# Altium footprint library footprints.PcbLib: 154 footprints (part 5 of 10)
Each footprint in its own frame and in the unit in brackets; x right, y up, seen from the top. Pads: shape width x height; smd on the part's side, far side on the other; paste and mask are expansions set on the pad; w line width, h text height; cw(c..) or ccw(c..) is an arc to the next point about the centre after c.
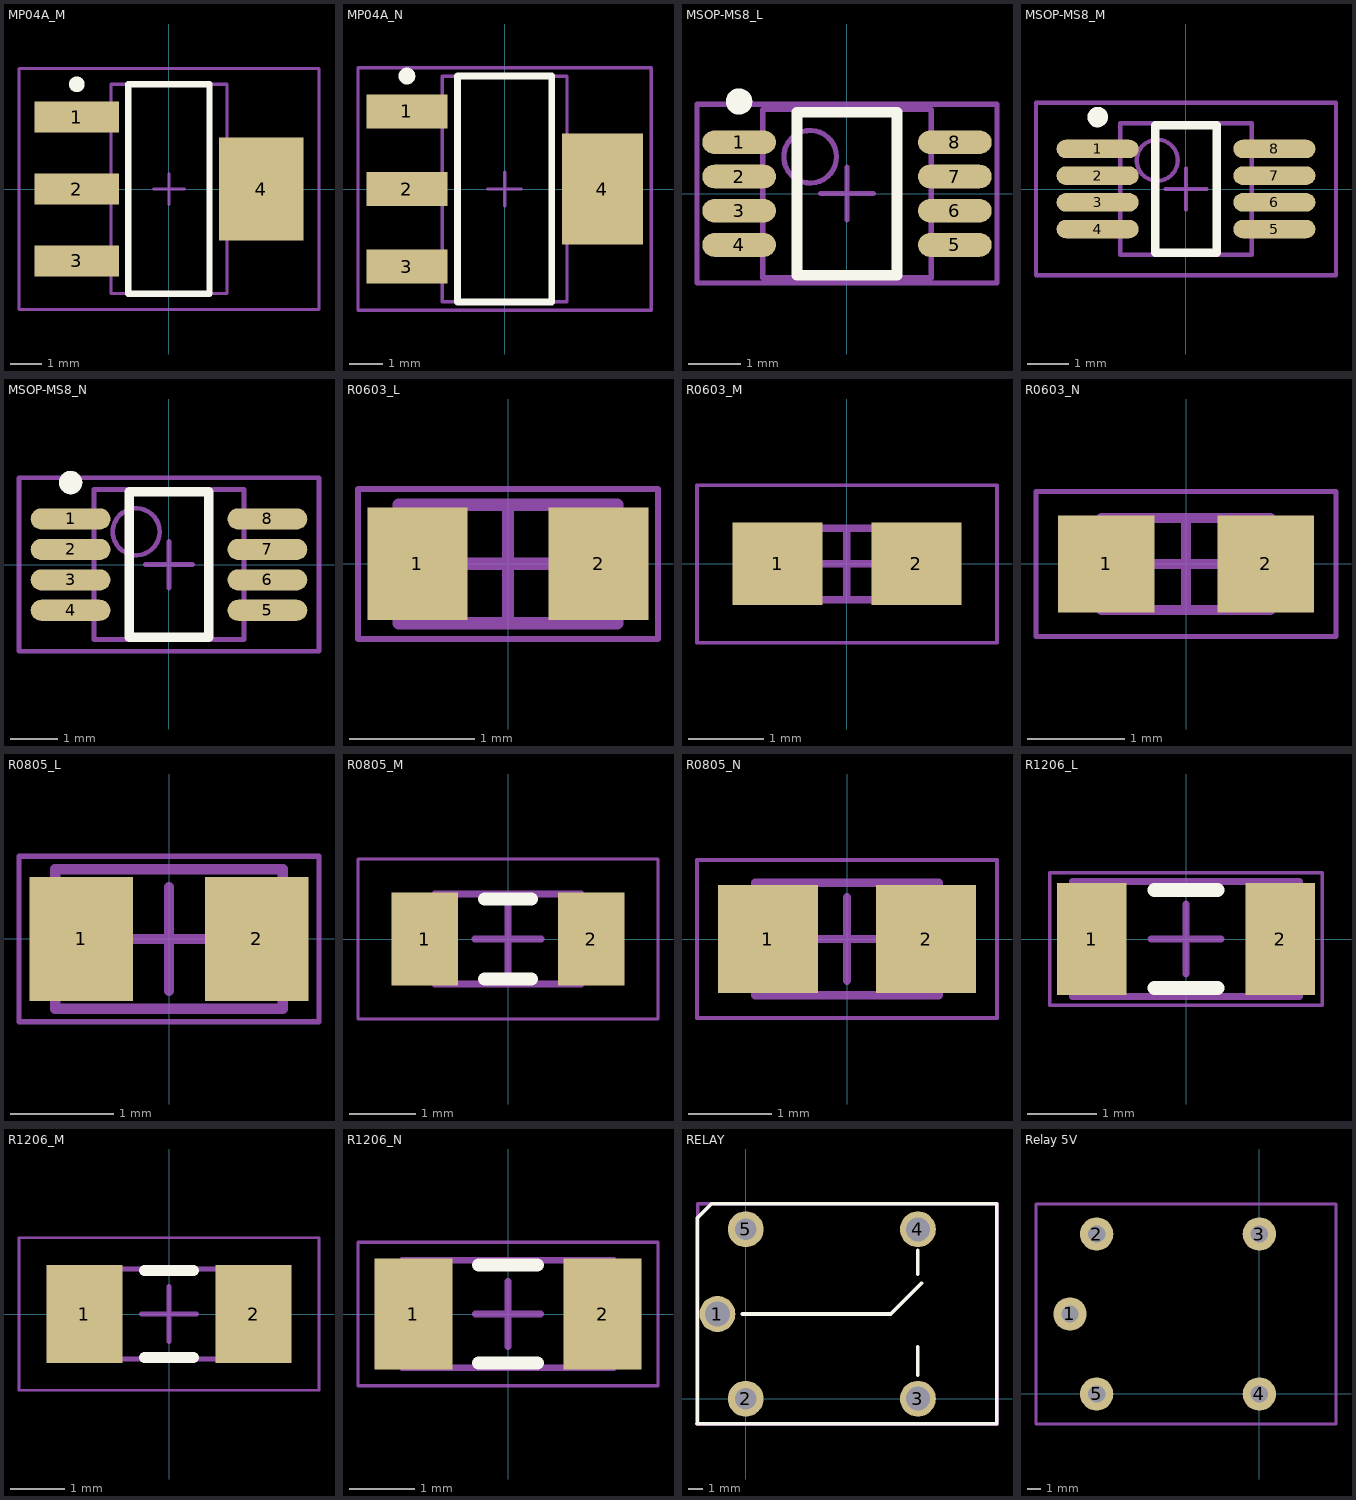
[diagram p4: the footprints below, top view; thin cyan lines are the x and y axes]

## MP04A_M [mm] "SOT223, 4-Leads, Body 6.5x3.5mm, Pitch 2.3mm, Lead Span 7mm, IPC Low Density"
height 1.8
pads (4):
  rect 2.7x1 smd: 1(-2.95,2.3) 2(-2.95,0) 3(-2.95,-2.3)
  rect 2.7x3.3 smd: 4(2.95,0)
Top Overlay:
  circle w0.25: c-2.95,3.35 r0.125
  lines w0.2: -1.3,-3.35 -1.3,3.35 1.3,3.35 1.3,-3.35 -1.3,-3.35
Mechanical 13:
  lines w0.1: -1.85,-3.35 -1.85,3.35 1.85,3.35 1.85,-3.35 -1.85,-3.35
Mechanical 15:
  lines w0.1: -0.5,0 0.5,0 ; 0,-0.5 0,0.5 ; -4.8,-3.85 -4.8,3.85 4.8,3.85 4.8,-3.85 -4.8,-3.85
3D body: height 1.8, standoff 0, extent -1.85,-3.35 1.85,3.35

## MP04A_N [mm] "SOT223, 4-Leads, Body 6.5x3.5mm, Pitch 2.3mm, Lead Span 7mm, IPC Medium Density"
height 1.8
pads (4):
  rect 2.4x1 smd: 1(-2.9,2.3) 2(-2.9,0) 3(-2.9,-2.3)
  rect 2.4x3.3 smd: 4(2.9,0)
Top Overlay:
  circle w0.25: c-2.9,3.35 r0.125
  lines w0.2: -1.4,-3.35 1.4,-3.35 1.4,3.35 -1.4,3.35 -1.4,-3.35
Mechanical 13:
  lines w0.1: -1.85,-3.35 1.85,-3.35 1.85,3.35 -1.85,3.35 -1.85,-3.35
Mechanical 15:
  lines w0.1: -0.5,0 0.5,0 ; 0,-0.5 0,0.5 ; -4.35,-3.6 4.35,-3.6 4.35,3.6 -4.35,3.6 -4.35,-3.6
3D body: height 1.8, standoff 0, extent -1.85,-3.35 1.85,3.35

## MSOP-MS8_L [mm] "TSOP, 8-Leads, Body 3x3mm, Pitch 0.65mm, IPC High Density"
height 1.1
pads (8):
  oval 1.4x0.45 smd: 1(-2.05,0.975) 2(-2.05,0.325) 3(-2.05,-0.325) 4(-2.05,-0.975) 5(2.05,-0.975) 6(2.05,-0.325) 7(2.05,0.325) 8(2.05,0.975)
Top Overlay:
  circle w0.25: c-2.05,1.75 r0.125
  lines w0.2: -0.95,-1.55 0.95,-1.55 0.95,1.55 -0.95,1.55 -0.95,-1.55
Mechanical 13:
  circle w0.1: c-0.7,0.7 r0.5
  lines w0.1: -1.6,-1.6 1.6,-1.6 1.6,1.6 -1.6,1.6 -1.6,-1.6
Mechanical 15:
  lines w0.1: -0.5,0 0.5,0 ; 0,-0.5 0,0.5 ; -2.85,-1.7 2.85,-1.7 2.85,1.7 -2.85,1.7 -2.85,-1.7
3D body: height 1.1, standoff 0, extent -1.6,-1.6 1.6,1.6

## MSOP-MS8_M [mm] "TSOP, 8-Leads, Body 3x3mm, Pitch 0.65mm, IPC Low Density"
height 1.1
pads (8):
  oval 2x0.45 smd: 1(-2.15,0.975) 2(-2.15,0.325) 3(-2.15,-0.325) 4(-2.15,-0.975) 5(2.15,-0.975) 6(2.15,-0.325) 7(2.15,0.325) 8(2.15,0.975)
Top Overlay:
  circle w0.25: c-2.15,1.75 r0.125
  lines w0.2: -0.75,-1.55 0.75,-1.55 0.75,1.55 -0.75,1.55 -0.75,-1.55
Mechanical 13:
  circle w0.1: c-0.7,0.7 r0.5
  lines w0.1: -1.6,-1.6 1.6,-1.6 1.6,1.6 -1.6,1.6 -1.6,-1.6
Mechanical 15:
  lines w0.1: -0.5,0 0.5,0 ; 0,-0.5 0,0.5 ; -3.65,-2.1 3.65,-2.1 3.65,2.1 -3.65,2.1 -3.65,-2.1
3D body: height 1.1, standoff 0, extent -1.6,-1.6 1.6,1.6

## MSOP-MS8_N [mm] "TSOP, 8-Leads, Body 3x3mm, Pitch 0.65mm, IPC Medium Density"
height 1.1
pads (8):
  oval 1.7x0.45 smd: 1(-2.1,0.975) 2(-2.1,0.325) 3(-2.1,-0.325) 4(-2.1,-0.975) 5(2.1,-0.975) 6(2.1,-0.325) 7(2.1,0.325) 8(2.1,0.975)
Top Overlay:
  circle w0.25: c-2.1,1.75 r0.125
  lines w0.2: -0.85,-1.55 -0.85,1.55 0.85,1.55 0.85,-1.55 -0.85,-1.55
Mechanical 13:
  circle w0.1: c-0.7,0.7 r0.5
  lines w0.1: -1.6,-1.6 -1.6,1.6 1.6,1.6 1.6,-1.6 -1.6,-1.6
Mechanical 15:
  lines w0.1: -0.5,0 0.5,0 ; 0,-0.5 0,0.5 ; -3.2,-1.85 -3.2,1.85 3.2,1.85 3.2,-1.85 -3.2,-1.85
3D body: height 1.1, standoff 0, extent -1.6,-1.6 1.6,1.6

## R0603_L [mm] "Chip Resistor, 2-Leads, Body 1,60x0,85mm, IPC High Density"
height 0.45
pads (2):
  rect 0.8x0.9 smd: 1(-0.725,0) 2(0.725,0)
Mechanical 13:
  lines w0.1: -0.875,-0.475 -0.875,0.475 0.875,0.475 0.875,-0.475 -0.875,-0.475
Mechanical 15:
  lines w0.05: -1.2,-0.6 -1.2,0.6 1.2,0.6 1.2,-0.6 -1.2,-0.6
  lines w0.1: -0.475,0 0.475,0 ; 0,-0.475 0,0.475
3D body: height 0.45, standoff 0, extent -0.575,-0.475 0.575,0.475
3D body: height 0.45, standoff 0, extent -0.875,-0.475 -0.575,0.475
3D body: height 0.45, standoff 0, extent 0.575,-0.475 0.875,0.475

## R0603_M [mm] "Chip Resistor, 2-Leads, Body 1,60x0,85mm, IPC Low Density"
height 0.45
pads (2):
  rect 1.2x1.1 smd: 1(-0.925,0) 2(0.925,0)
Mechanical 13:
  lines w0.1: -0.875,-0.475 0.875,-0.475 0.875,0.475 -0.875,0.475 -0.875,-0.475
Mechanical 15:
  lines w0.05: -2,-1.05 2,-1.05 2,1.05 -2,1.05 -2,-1.05
  lines w0.1: -0.475,0 0.475,0 ; 0,-0.475 0,0.475
3D body: height 0.45, standoff 0, extent 0.575,-0.475 0.875,0.475
3D body: height 0.45, standoff 0, extent -0.875,-0.475 -0.575,0.475
3D body: height 0.45, standoff 0, extent -0.575,-0.475 0.575,0.475

## R0603_N [mm] "Chip Resistor, 2-Leads, Body 1,60x0,85mm, IPC Medium Density"
height 0.45
pads (2):
  rect 1x1 smd: 1(-0.825,0) 2(0.825,0)
Mechanical 13:
  lines w0.1: -0.875,-0.475 0.875,-0.475 0.875,0.475 -0.875,0.475 -0.875,-0.475
Mechanical 15:
  lines w0.05: -1.55,-0.75 1.55,-0.75 1.55,0.75 -1.55,0.75 -1.55,-0.75
  lines w0.1: -0.475,0 0.475,0 ; 0,-0.475 0,0.475
3D body: height 0.45, standoff 0, extent 0.575,-0.475 0.875,0.475
3D body: height 0.45, standoff 0, extent -0.875,-0.475 -0.575,0.475
3D body: height 0.45, standoff 0, extent -0.575,-0.475 0.575,0.475

## R0805_L [mm] "Chip Resistor, 2-Leads, Body 2,00x1,25mm, IPC High Density"
height 0.6
pads (2):
  rect 1x1.2 smd: 1(-0.85,0) 2(0.85,0)
Mechanical 13:
  lines w0.1: -1.1,-0.675 1.1,-0.675 1.1,0.675 -1.1,0.675 -1.1,-0.675
Mechanical 15:
  lines w0.05: -1.45,-0.8 1.45,-0.8 1.45,0.8 -1.45,0.8 -1.45,-0.8
  lines w0.1: -0.5,0 0.5,0 ; 0,-0.5 0,0.5
3D body: height 0.6, standoff 0, extent 0.7,-0.675 1.1,0.675
3D body: height 0.6, standoff 0, extent -1.1,-0.675 -0.7,0.675
3D body: height 0.6, standoff 0, extent -0.7,-0.675 0.7,0.675

## R0805_M [mm] "Chip Resistor, 2-Leads, Body 2,00x1,25mm, IPC Low Density"
height 0.6
pads (2):
  rect 1x1.4 smd: 1(-1.25,0) 2(1.25,0)
Top Overlay:
  lines w0.2: -0.35,-0.6 0.35,-0.6 ; -0.35,0.6 0.35,0.6
Mechanical 13:
  lines w0.1: -1.1,-0.675 1.1,-0.675 1.1,0.675 -1.1,0.675 -1.1,-0.675
Mechanical 15:
  lines w0.05: -2.25,-1.2 2.25,-1.2 2.25,1.2 -2.25,1.2 -2.25,-1.2
  lines w0.1: -0.5,0 0.5,0 ; 0,-0.5 0,0.5
3D body: height 0.6, standoff 0, extent 0.7,-0.675 1.1,0.675
3D body: height 0.6, standoff 0, extent -1.1,-0.675 -0.7,0.675
3D body: height 0.6, standoff 0, extent -0.7,-0.675 0.7,0.675

## R0805_N [mm] "Chip Resistor, 2-Leads, Body 2,00x1,25mm, IPC Medium Density"
height 0.6
pads (2):
  rect 1.2x1.3 smd: 1(-0.95,0) 2(0.95,0)
Mechanical 13:
  lines w0.1: -1.1,-0.675 -1.1,0.675 1.1,0.675 1.1,-0.675 -1.1,-0.675
Mechanical 15:
  lines w0.05: -1.8,-0.95 -1.8,0.95 1.8,0.95 1.8,-0.95 -1.8,-0.95
  lines w0.1: -0.5,0 0.5,0 ; 0,-0.5 0,0.5
3D body: height 0.6, standoff 0, extent -0.7,-0.675 0.7,0.675
3D body: height 0.6, standoff 0, extent -1.1,-0.675 -0.7,0.675
3D body: height 0.6, standoff 0, extent 0.7,-0.675 1.1,0.675

## R1206_L [mm] "Chip Resistor, 2-Leads, Body 3,13x1,55mm, IPC High Density"
height 0.6
pads (2):
  rect 1x1.6 smd: 1(-1.35,0) 2(1.35,0)
Top Overlay:
  lines w0.2: -0.45,-0.7 0.45,-0.7 ; -0.45,0.7 0.45,0.7
Mechanical 13:
  lines w0.1: -1.625,-0.825 -1.625,0.825 1.625,0.825 1.625,-0.825 -1.625,-0.825
Mechanical 15:
  lines w0.05: -1.95,-0.95 -1.95,0.95 1.95,0.95 1.95,-0.95 -1.95,-0.95
  lines w0.1: -0.5,0 0.5,0 ; 0,-0.5 0,0.5
3D body: height 0.6, standoff 0, extent -1.125,-0.825 1.125,0.825
3D body: height 0.6, standoff 0, extent -1.625,-0.825 -1.125,0.825
3D body: height 0.6, standoff 0, extent 1.125,-0.825 1.625,0.825

## R1206_M [mm] "Chip Resistor, 2-Leads, Body 3,13x1,60mm, IPC Low Density"
height 0.6
pads (2):
  rect 1.4x1.8 smd: 1(-1.55,0) 2(1.55,0)
Top Overlay:
  lines w0.2: -0.45,-0.8 0.45,-0.8 ; -0.45,0.8 0.45,0.8
Mechanical 13:
  lines w0.1: -1.625,-0.825 1.625,-0.825 1.625,0.825 -1.625,0.825 -1.625,-0.825
Mechanical 15:
  lines w0.05: -2.75,-1.4 2.75,-1.4 2.75,1.4 -2.75,1.4 -2.75,-1.4
  lines w0.1: -0.5,0 0.5,0 ; 0,-0.5 0,0.5
3D body: height 0.6, standoff 0, extent 1.125,-0.825 1.625,0.825
3D body: height 0.6, standoff 0, extent -1.625,-0.825 -1.125,0.825
3D body: height 0.6, standoff 0, extent -1.125,-0.825 1.125,0.825

## R1206_N [mm] "Chip Resistor, 2-Leads, Body 3,13x1,55mm, IPC Medium Density"
height 0.6
pads (2):
  rect 1.2x1.7 smd: 1(-1.45,0) 2(1.45,0)
Top Overlay:
  lines w0.2: -0.45,-0.75 0.45,-0.75 ; -0.45,0.75 0.45,0.75
Mechanical 13:
  lines w0.1: -1.625,-0.825 1.625,-0.825 1.625,0.825 -1.625,0.825 -1.625,-0.825
Mechanical 15:
  lines w0.05: -2.3,-1.1 2.3,-1.1 2.3,1.1 -2.3,1.1 -2.3,-1.1
  lines w0.1: -0.5,0 0.5,0 ; 0,-0.5 0,0.5
3D body: height 0.6, standoff 0, extent 1.125,-0.825 1.625,0.825
3D body: height 0.6, standoff 0, extent -1.625,-0.825 -1.125,0.825
3D body: height 0.6, standoff 0, extent -1.125,-0.825 1.125,0.825

## RELAY [mm]
pads (5):
  round 2.54 hole 1.8: 1(-2,6)
  round 2.54 hole 1.5: 2(0,0) 5(0,12)
  round 2.54 hole 1.7: 3(12.2,0) 4(12.2,12)
Top Overlay:
  lines w0.254: -0.225,6 10.275,6 12.45,8.175 ; 12.175,1.675 12.175,3.675 ; 12.2,8.825 12.2,10.5 ; -3.45,-1.775 -3.425,-1.75 -3.425,12.8 -2.425,13.8 17.775,13.8 17.775,-1.775 -3.45,-1.775
Mechanical 13:
  lines w0.254: -3.4,-1.8 -3.4,13.8 17.8,13.8 17.8,-1.8 -3.4,-1.8
3D body: height 15.6, standoff 0, extent -3.4,-1.8 17.8,13.8

## Relay 5V [mm]
pads (5):
  round 2.5 hole 1.3: 1(-14.2,6) 2(-12.2,12) 3(0,12) 4(0,0) 5(-12.2,0)
Mechanical 13:
  lines w0.254: -16.75,-2.25 -16.75,14.25 5.75,14.25 5.75,-2.25 -16.75,-2.25
3D body: height 20, standoff 0, extent -16.75,-2.25 5.75,14.25